# Altium footprint library LM3886TF&slash_NOPB.PcbLib: 1 footprints
Each footprint in its own frame and in the unit in brackets; x right, y up, seen from the top. Pads: shape width x height; smd on the part's side, far side on the other; paste and mask are expansions set on the pad; w line width, h text height; cw(c..) or ccw(c..) is an arc to the next point about the centre after c.
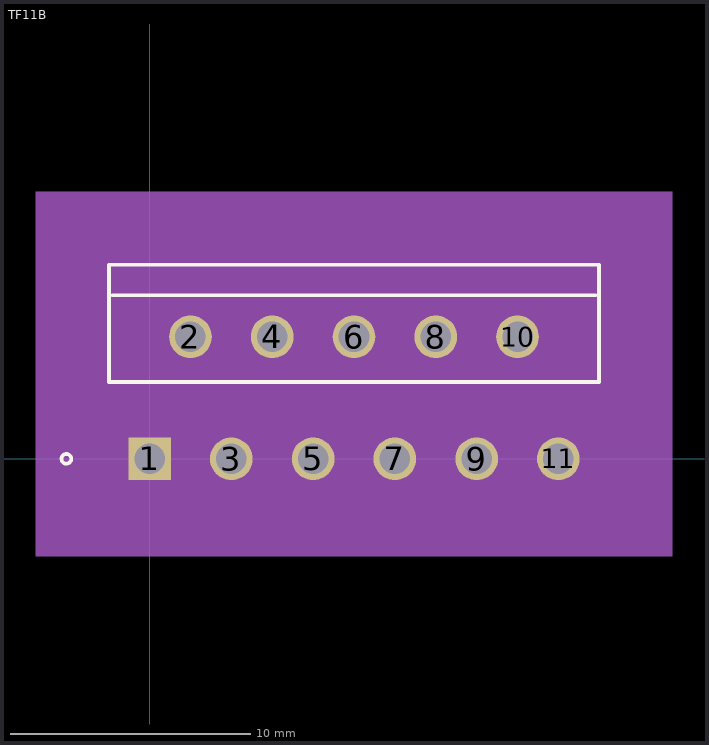
[diagram p0: the footprint, top view; thin cyan lines are the x and y axes]

## TF11B [mil]
pads (11):
  rect 70x70 hole 50 mask+0: 1(0,0)
  round 70 hole 50 mask+0: 2(67,200) 3(134,0) 4(201,200) 5(268,0) 6(335,200) 7(402,0) 8(469,200) 9(536,0) 10(603,200) 11(670,0)
Top Overlay:
  circle w6: c-136.5,0 r8
  lines w6: -61.5,268 731.5,268 ; -66.5,126 -66.5,318 736.5,318 736.5,126 -66.5,126
Mechanical 5:
  region: -186.5,438 856.5,438 856.5,-160 -186.5,-160
Mechanical 13:
  circle w0: c-51.5,141 r8
  lines w1: -61.5,263 731.5,263 ; -61.5,131 -61.5,313 731.5,313 731.5,131 -61.5,131
  text "TAB" at 316.25,275.5 h25
Mechanical 15:
  region: 741.5,323 -71.5,323 -71.5,-45 741.5,-45
  lines w6: -71.5,-45 741.5,-45 741.5,323 -71.5,323 -71.5,-45
3D body "TF11B.step": height 1103.86, standoff -63.15, extent -61.49,-19.99 731.51,313